# Altium schematic symbol library Master.SchLib: 29 symbols
Pins are listed as number, name and electrical type; pins without a type are passive.

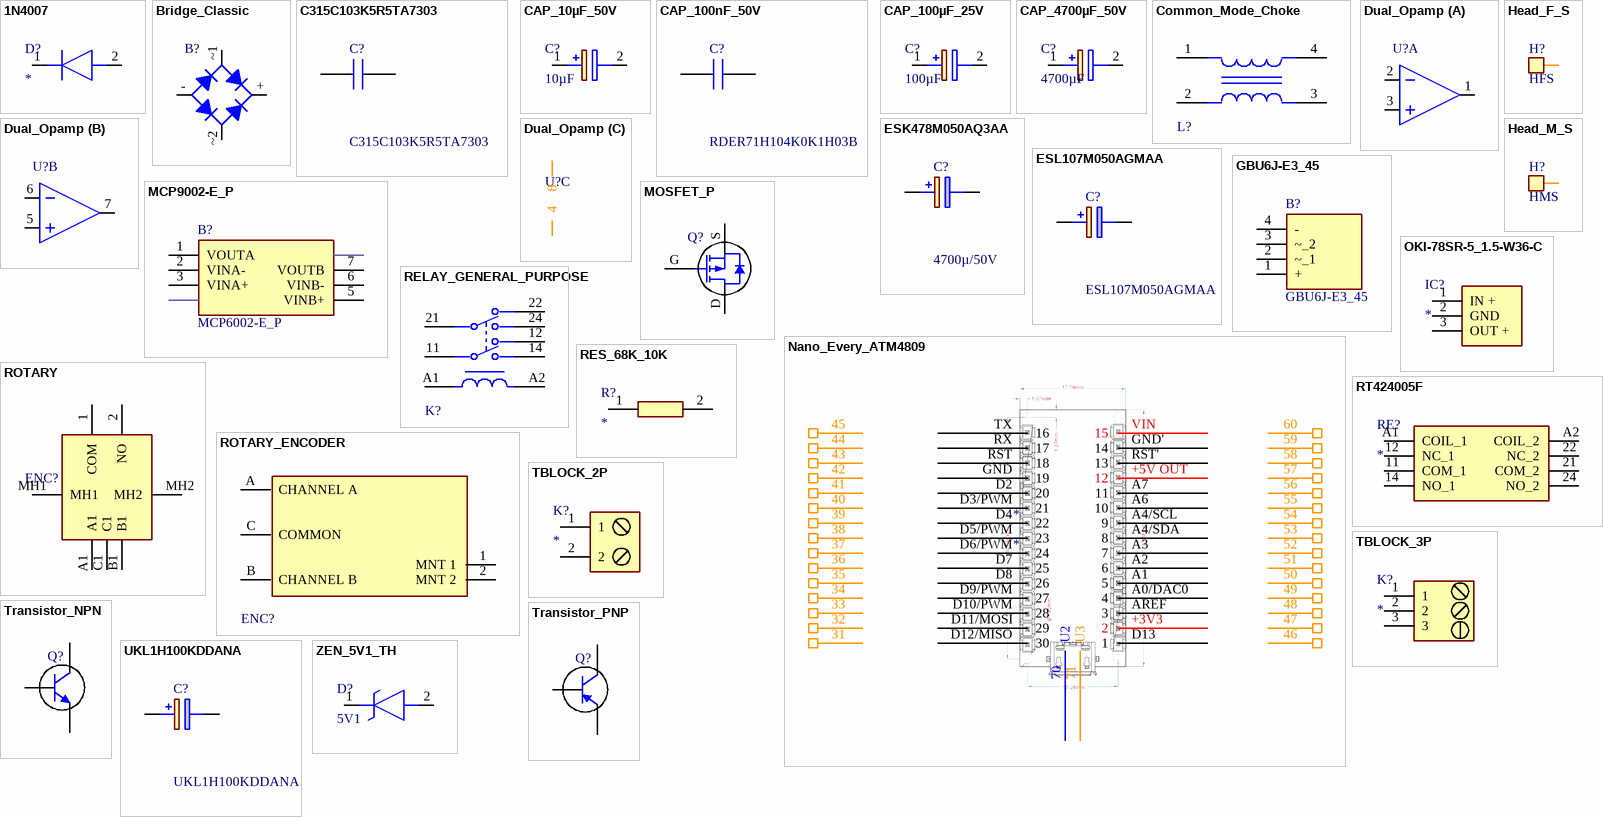
[diagram p0: symbols 1N4007 to ZEN_5V1_TH]

## 1N4007
designator D?
Diode 1N4007; Manufacturer_Name: Diotec; Datasheet Link: https://diotec.com/tl_files/diotec/files/pdf/datasheets/1n4001.pdf; Manufacturer_Part_Number: 1N4007; Mouser Part Number: 637-1N4007; Mouser Price/Stock: https://www.mouser.co.uk/ProductDetail/Diotec-Semiconductor/1N4007?qs=OlC7AqGiEDmK9mU1uTiCkg%3D%3D; Arrow Part Number: 1N4007; Arrow Price/Stock: https://www.arrow.com/en/products/1n4007/diotec-semiconductor-ag?region=europe
footprint DIOAD1405W58L465D235
pins: 1 K, 2 A

## Bridge_Classic
designator B?
Bridge Rectifiers 6.0 Amp 600 Volt; Manufacturer: Diodes Inc; Average Rectified Current-Max: 0.8A; Reverse Voltage-Max [Vrrm]: 600V; Forward Voltage: 1V; Peak Current-Max: 30A; Reverse Current-Max: 5µA; Package Version: 05/2016; Package URL: http://www.diodes.com/_files/packages/MiniDIP.pdf; Datasheet Version: Rev. 13-2, 12/2010; Datasheet URL: http://www.diodes.com/_files/datasheets/ds17003.pdf; Mounting Technology: SurfaceMount; Manufacturer URL: http://www.diodes.com/; Package Reference: MiniDIP-4; Package Description: 4-Pin Small Outline Integrated Circuit, Body 4.7 x 3.8 mm, Pitch 2.5 mm
footprint GBU6JE345
pins: + K, - A, ~1 C, ~2 C

## C315C103K5R5TA7303
designator C?
GoldMax 300 Comm X7R, Ceramic, 0.01 uF, 10%, 50 VDC, 125 VDC, 125C, -55C, X7R, GoldMax, Commercial Standard, 2.5 % , 100 GOhms, 3.81mm, 3.14mm, 2.54mm, Lead Spacing = 2.54mm, 18mm, 0.51mm, 2500, 80; Manufacturer_Name: KEMET; Geometry.Height: 4.66mm; Mouser Part Number: 80-C315C103K5R-TR; Mouser Price/Stock: https://www.mouser.co.uk/ProductDetail/KEMET/C315C103K5R5TA7303?qs=LJ1pyEEo5rYBfSJP9%252BZ%252BkA%3D%3D; Manufacturer_Part_Number: C315C103K5R5TA7303; Datasheet Link: https://content.kemet.com/datasheets/KEM_C1050_GOLDMAX_X7R.pdf
footprint C315C103K5R5TA7303
pins: 1, 2

## CAP_10µF_50V
designator C?, comment 10µF
Aluminium Electrolytic Capacitors - Radial Leaded WCAP-AT1H 10uF 50V 20% Radial; Manufacturer_Name: Wurth Elektronik; Manufacturer_Part_Number: 860040473003; Datasheet Link: https://componentsearchengine.com/Datasheets/2/860040473003.pdf; Height: 12.5mm; Mouser Part Number: 710-860040473003; Mouser Price/Stock: https://www.mouser.co.uk/ProductDetail/Wurth-Elektronik/860040473003?qs=0KOYDY2FL29v2%2FALxGsSIw%3D%3D
footprint CAPPRD200W50D525H1250
pins: 1 +, 2 -

## CAP_100nF_50V
designator C?, comment RDER71H104K0K1H03B
CAP, 0.1UF, 50V, MLCC, RADIAL; Manufacturer_Name: Murata Electronics; Geometry.Height: 5mm; Mouser Part Number: 81-RDER71H104K0K1H3B; Mouser Price/Stock: https://www.mouser.co.uk/ProductDetail/Murata-Electronics/RDER71H104K0K1H03B?qs=hNud%2FORuBR2GLaz%2FjAabyQ%3D%3D; Manufacturer_Part_Number: RDER71H104K0K1H03B; Datasheet Link: https://psearch.en.murata.com/capacitor/product/RDER71H104K0K1H03B.html
footprint RDE5C1H330J0M1H03A
pins: 1, 2

## CAP_100µF_25V
designator C?, comment 100µF
Aluminium Electrolytic Capacitors - Radial Leaded WCAP-ATUL 100uF 25V 20% Radial; Manufacturer_Name: Wurth Elektronik; Manufacturer_Part_Number: 860040473003; Datasheet Link: https://componentsearchengine.com/Datasheets/2/860040473003.pdf; Height: 12.5mm; Mouser Part Number: 710-860040473003; Mouser Price/Stock: https://www.mouser.co.uk/ProductDetail/Wurth-Elektronik/860040473003?qs=0KOYDY2FL29v2%2FALxGsSIw%3D%3D
footprint CAPPRD200W50D525H1250
pins: 1 +, 2 -

## CAP_4700µF_50V
designator C?, comment 4700µF
Aluminium Electrolytic Capacitors - Radial Leaded WCAP-ATG8 4700uF 50V 20% Radial; Manufacturer_Name: Wurth Elektronik; Manufacturer_Part_Number: 860040473003; Datasheet Link: https://componentsearchengine.com/Datasheets/2/860040473003.pdf; Height: 12.5mm; Mouser Part Number: 710-860040473003; Mouser Price/Stock: https://www.mouser.co.uk/ProductDetail/Wurth-Elektronik/860040473003?qs=0KOYDY2FL29v2%2FALxGsSIw%3D%3D
footprint CAP_4700UF_50V
footprint CAP_4700UF_50V
pins: 1 +, 2 -

## Common_Mode_Choke
designator L?
Max Current Rating: 2A; Number of Lines: 2; Impedance: 900R; Element Configuration: Dual; Insulation Resistance: 10MR; Test Frequency: 100MHz; DC Resistance (DCR): 60mR; Voltage Rating (DC): 50V; Current Rating: 2.3A; Number of Pins: 4; DC Current: 2A; Mount: Surface Mount; Current: 2A; REACH SVHC: No SVHC; Width: 4.5mm; Case/Package: 1808; Voltage Rating: 50V; Package Quantity: 1; Height: 2mm; Max DC Current: 2A; Packaging: Tape and Reel; Max Operating Temperature: 85°C; Lead Free: Lead Free; Length: 0.185inch; Series: ACM; Radiation Hardening: No; Max Voltage Rating (DC): 50V; Termination: Flat; Depth: 4.7mm; RoHS Compliant: Yes; DC Resistance-Max: 60mR; Min Operating Temperature: -40°C
footprint 2545
pins: 1, 2, 3, 4

## Dual_Opamp
designator U?
Slew Rate: 0.6V/µs; Supply Current: 100uA; Power Supply Rejection Ratio (PSRR): 86dB; Input Offset Voltage (Vos): 4.5mV; Input Bias Current: 1pA; Amplifier Type: GENERAL PURPOSE; Unity Gain Bandwidth Product: 1MHz; Number of Circuits: 2; Output Current: 23mA; Operating Supply Voltage: 5.5V; Min Supply Voltage: 1.8V; Common Mode Rejection Ratio: 60dB; Voltage Gain: 112dB; Max Supply Voltage: 6V; Package Quantity: 60; REACH SVHC: No SVHC; Min Operating Temperature: -40°C; Max Operating Temperature: 125°C; Mount: Through Hole; Nominal Supply Current: 100uA; Height: 3.3mm; Length: 9.27mm; Slew Rate-Nom: 0.6V/µs; Packaging: Rail/Tube; Output Current per Channel: 23mA; Number of Amplifiers: 2; RoHS Compliant: Yes; Radiation Hardening: No; Bandwidth: 1MHz; Lead Free: Lead Free; Width: 6.35mm; Number of Channels: 2; Gain Bandwidth Product: 1MHz; Technology: CMOS; Operating Supply Current: 100uA; Number of Elements: 2; Number of Pins: 8; Input Offset Voltage-Max: 4.5mV; Case/Package: PDIP
footprint DIP781W56P254L950H533Q8N
part A pins: 1 VOUTA, 2 VINA-, 3 VINA+
part B pins: 5 VINB+, 6 VINB-, 7 VOUTB
part C pins: 4 "USB differential data -", 8 "USB differential data -"

## ESK478M050AQ3AA
designator C?, comment 4700µ/50V
ESK, Aluminum, Aluminum Electrolytic, 4,700 uF, 20%, 50 VDC, -40/+85C, 85C, -40C, 85C, 2,000 Hrs, 10 % , 2.5, 2,350 uA, 3, 3, 22mm, 35mm, Lead Spacing = 10mm, 20mm, 400; Manufacturer_Name: KEMET; Manufacturer_Part_Number: ESK478M050AQ3AA; Geometry.Height: 37mm; Mouser Part Number: 80-ESK478M050AQ3AA; Mouser Price/Stock: https://www.mouser.co.uk/ProductDetail/KEMET/ESK478M050AQ3AA?qs=gt1LBUVyoHl7SM9dsUCJjA%3D%3D; Datasheet Link: https://content.kemet.com/datasheets/KEM_A4004_ESK.pdf
footprint CAPPRD1000W80D2200H3700
pins: 1 +, 2 -

## ESL107M050AGMAA
designator C?
ESL, Aluminum, Aluminum Electrolytic, 100 uF, 20%, 50 VDC, -40/+105C, 105C, -40C, 105C, 10,000 Hrs, 10 % , 120 mOhms, 50 uA, 6, 8mm, 11.5mm, Lead Spacing = 3.5mm, 20mm, 6000; Manufacturer_Name: KEMET; Geometry.Height: 13.5mm; Mouser Part Number: 80-ESL107M050AGMAA; Mouser Price/Stock: https://www.mouser.co.uk/ProductDetail/KEMET/ESL107M050AGMAA?qs=HXFqYaX1Q2z4rTWD6PNUtA%3D%3D; Manufacturer_Part_Number: ESL107M050AGMAA; Datasheet Link: https://content.kemet.com/datasheets/KEM_A4074_ESL.pdf
footprint CAPPRD350W60D800H1350
pins: 1 +, 2 -

## GBU6J-E3_45
designator B?
Bridge Rectifiers 6.0 Amp 600 Volt; Manufacturer_Name: Vishay; Manufacturer_Part_Number: GBU6J-E3/45; Geometry.Height: 18.8mm; Mouser Part Number: 625-GBU6J-E3; Mouser Price/Stock: https://www.mouser.co.uk/ProductDetail/Vishay-General-Semiconductor/GBU6J-E3-45?qs=AvlKB63p5SmaxIqZPcvcDQ%3D%3D; Datasheet Link: http://www.vishay.com/docs/88615/gbu6a.pdf
footprint GBU6JE345
pins: 1 +, 2 ~_1, 3 ~_2, 4 -

## Head_F_S
designator H?, comment HFS
footprint Header_F_S (Header female single)
pins: 1 HF "USB differential data -"

## Head_M_S
designator H?, comment HMS
footprint Header_M_S (Header male single)
pins: 1 HF "USB differential data -"

## MCP9002-E_P
designator B?, comment MCP6002-E_P
Microchip MCP6002-E/P, Dual Op Amp, 1MHz CMOS, Rail to Rail, 3 V, 5 V, 8-Pin PDIP; Geometry.Height: 5.334mm; Mouser Part Number: 579-MCP6002-E/P; Mouser Price/Stock: https://www.mouser.co.uk/ProductDetail/Microchip-Technology-Atmel/MCP6002-E-P?qs=hul3WK2zl4pqRWzdnAsu%2FQ%3D%3D; Manufacturer_Name: Microchip; Manufacturer_Part_Number: MCP6002-E/P; Datasheet Link: http://componentsearchengine.com/Datasheets/3/MCP6002-E_P.pdf
footprint DIP781W56P254L950H533Q8N
pins: 1 VOUTA, 2 VINA-, 3 VINA+, 4 VSS, 5 VINB+, 6 VINB-, 7 VOUTB, 8 VDD

## MOSFET_P
designator Q?
Manufacturer: Fairchild Semiconductor; Reel Quantity: 3000; Drain Source Voltage Vds: 20V; Power Dissipation Pd: 500mW; On Resistance Rds(on): 52mohm; Full Power Rating Temperature: 25°C; Voltage Vgs Max: -800mV; Pulse Current Idm: 10A; Rds(on) Test Voltage Vgs: -4.5V; External Depth: 2.5mm; Transistor Case Style: SOT-23; No. of Pins: 3; Continuous Drain Current Id: 2.4A; Voltage Vds Typ: -20V; Voltage Vgs th Max: -1.5V; Transistor Polarity: PChannel; Package Version: Rev. 3, 05/2015; External Width: 3.05mm; External Length / Height: 1.12mm; SMD Marking: 304P; SVHC: NoSVHC(19-Dec-2012); Termination Type: SMD; Datasheet URL: https://www.fairchildsemi.com/datasheets/FD/FDN304P.pdf; Tape Width: 8mm; Mounting Technology: SurfaceMount; Voltage Vgs Rds on Measurement: -4.5V; Operating Temperature Range: -55°Cto+150°C; Current Temperature: 25°C; Operating Temperature Min: -55°C; Threshold Voltage Vgs Typ: -800mV; Package / Case: SOT-23; Manufacturer URL: https://www.fairchildsemi.com/; Voltage Vds: 20V; Datasheet Version: Rev. C, 01/2001; Operating Temperature Max: 150°C; Package Description: 3-Pin Small Outline Transistor, Body 2.92 x 1.4 mm, Pitch 0.95 mm; Current Id Max: 2.4A; Package URL: https://www.fairchildsemi.com/package-drawings/MA/MA03B.pdf; Package Reference: SSOT3L
footprint IRF9Z34NPBF (MOSFET MOSFT PCh -55V -17A 100mOhm 23.3nC)
pins: D DRAIN, G GATE, S SOURCE

## Nano_Every_ATM4809
designator *
footprint Every_Nano_4809 (Microcontroller)
pins: 31 BIS "USB differential data -", 32 BIS "USB differential data -", 33 BIS "USB differential data -", 34 BIS "USB differential data -", 35 BIS "USB differential data -", 36 BIS "USB differential data -", 37 BIS "USB differential data -", 38 BIS "USB differential data -", 39 BIS "USB differential data -", 40 BIS "USB differential data -", 41 BIS "USB differential data -", 42 BIS "USB differential data -", 43 BIS "USB differential data -", 44 BIS "USB differential data -", 45 BIS "USB differential data -", 46 BIS "USB differential data -", 47 BIS "USB differential data -", 48 BIS "USB differential data -", 49 BIS "USB differential data -", 50 BIS "USB differential data -", 51 BIS "USB differential data -", 52 BIS "USB differential data -", 53 BIS "USB differential data -", 54 BIS "USB differential data -", 55 BIS "USB differential data -", 56 BIS "USB differential data -", 57 BIS "USB differential data -", 58 BIS "USB differential data -", 59 BIS "USB differential data -", 60 BIS "USB differential data -", 70 U2 "USB differential data -", 71 U3 "USB differential data -", +3V3 2 "Internally generated power output to external devices", +5V OUT 12 "Internally generated power output to external devices", A0/DAC0 4 "ADC in/DAC out; can be used as GPIO", A1 5 "ADC in; can be used as GPIO", A2 6 "ADC in; can be used as GPIO", A3 7 "ADC in; can be used as GPIO", A4/SCL 9 "ADC in; I2C SCL; Can be used as GPIO", A4/SDA 8 "ADC in; I2C SDA; Can be used as GPIO", A6 10 "ADC in; can be used as GPIO", A7 11 "ADC in; can be used as GPIO", AREF 3 "Analog Reference; can be used as GPIO", D2 20 "GPIO", D3/PWM 21 "GPIO; can be used as PWM", D4 22 "GPIO", D5/PWM 23 "GPIO; can be used as PWM", D6/PWM 24 "GPIO; can be used as PWM", D7 25 "GPIO", D8 26 "GPIO", D9/PWM 27 "GPIO; can be used as PWM", D10/PWM 28 "GPIO; can be used as PWM", D11/MOSI 29 "SPI MOSI; can be used as GPIO", D12/MISO 30 "SPI MOSI; can be used as GPIO", D13 1 "SPI SCK, GPIO", GND 19 "Power Ground", GND' 14 "Power Ground", RST 18 "Active low reset input (duplicate of pin 13)", RST' 13 "Active low reset input (duplicate of pin 13)", RX 17 "USART RX; can be used as GPIO", TX 16 "USART TX; can be used as GPIO", VIN 15

## OKI-78SR-5_1.5-W36-C
designator IC?
Non-Isolated DC/DC Converter 7.5W 12VIN 5VOUT 1.5A DC/DC; Manufacturer_Name: Murata Electronics; Manufacturer_Part_Number: OKI-78SR-5/1.5-W36-C; Datasheet Link: https://www.murata.com/products/productdata/8807037992990/oki-78sr.pdf?1583754815000; Height: 16.5mm; Mouser Part Number: 580-OKI78SR5/1.5W36C; Mouser Price/Stock: https://www.mouser.co.uk/ProductDetail/Murata-Power-Solutions/OKI-78SR-5-1.5-W36-C?qs=uJpRT2lXVNXJP%252Bo08dQqJQ%3D%3D; Arrow Part Number: OKI-78SR-5/1.5-W36-C; Arrow Price/Stock: https://www.arrow.com/en/products/oki-78sr-51.5-w36-c/murata-power-solutions?region=nac
footprint OKI78SR515W36C
pins: 1 IN +, 2 GND, 3 OUT +

## RELAY_GENERAL_PURPOSE
designator K?
Manufacturer Part Number: RT424005; Manufacturer: TE Connectivity; Coil Power: 403mW; Throw Configuration: DPDT; Coil Voltage: 5V; Number Of Contacts: 2; Coil Resistance: 62Ω; Current Rating: 8A; Coil Type: Non-Latching; Category: Relay; Octopart: https://octopart.com/5-1393243-9-te+connectivity-41835766; Device Class L3: Power Relays; ComponentLink2URL: https://www.te.com/commerce/DocumentDelivery/DDEController?Action=showdoc&DocId=Data+Sheet%7FRT2%7F1014%7Fpdf%7FEnglish%7FENG_DS_RT2_1014.pdf%7F5-1393243-9; Ambient Temperature Range High: +85°C; ComponentLink2Description: Datasheet; Digikey Description: RELAY GENERAL PURPOSE DPDT 8A 5V; Package: RT424005; Automotive: No; Device Class L1: Electromechanical; Height: 15.7mm; Device Class L2: Relays; Ambient Temperature Range Low: -40°C; Mouser Description: General Purpose Relay, Rt2 Series, Power, Non Latching, Dpdt, 5 Vdc, 8 A Rohs Compliant: Yes; Lead Free: Yes; RoHS: TRUE
footprint RT424005F (General Purpose Relays DPDT 8A 5VDC GEN PURPOSE RELAY)
pins: 11, 12, 14, 21, 22, 24, A1, A2

## RES_68K_10K
designator R?
Through Hole 1W 10/68 Kohms 1%; Manufacturer_Name: Vishay; Manufacturer_Part_Number: CMF6010K000FKEB; Datasheet Link: https://datasheet.datasheetarchive.com/originals/distributors/Datasheets-DGA8/3123891.pdf; Mouser Part Number: 71-CMF6010K000FKEB; Mouser Price/Stock: https://www.mouser.co.uk/ProductDetail/Vishay-Dale/CMF6010K000FKEB?qs=GEEnpASSx%2Fgpk8SPxIuFzw%3D%3D; Arrow Part Number: CMF6010K000FKEB; Arrow Price/Stock: https://www.arrow.com/en/products/cmf6010k000fkeb/vishay
footprint VISHAY_CMF_60 (Vishay CMF 60 series)
pins: 1, 2

## ROTARY
designator ENC?  (value not drawn)
Encoder 20mm SHAFT w/SWITCH; Manufacturer_Name: Bourns; Manufacturer_Part_Number: PEC11R-4225F-S0012; Datasheet Link: https://www.bourns.com/docs/product-datasheets/pec11r.pdf?sfvrsn=bb617cbf_11; Height: 31.5mm; Mouser Part Number: 652-PEC11R-4225F-S12; Mouser Price/Stock: https://www.mouser.co.uk/ProductDetail/Bourns/PEC11R-4225F-S0012?qs=Zq5ylnUbLm4jMN%252BFiPmzDg%3D%3D
footprint PEC11R4225FS0012
pins: 1 COM, 2 NO, A1, B1, C1, MH1, MH2

## ROTARY_ENCODER
designator ENC?
Manufacturer Part Number: PEC11R-4015F-N0024; Manufacturer: Bourns; Current Rating: 10mA; Number Of Circuits: 1; Conn Orientation: Vertical; Encoder Type: Incremental; Detent: No; Pulses Per Rev: 24; Voltage Rating Dc: 5V; Height: 22.3mm; ComponentLink2URL: https://www.bourns.com/docs/product-datasheets/pec11r.pdf?sfvrsn=bb617cbf_7; Mouser Description: Encoders 15mm SHAFT NO SWITCH; Package: 0; RoHS: TRUE; Temperature Range High: +70°C; Device Class L1: Electromechanical; Device Class L3: Encoders; Temperature Range Low: -30°C; Device Class L2: Switches; Temperature: -30°C to +70°C; Category: Enc; ComponentLink2Description: Datasheet; Lead Free: Yes; Automotive: No; Octopart: https://octopart.com/pec11r-4015f-n0024-bourns-26648251; Digikey Description: ROTARY ENCODER MECHANICAL 24PPR
footprint PEC11R4225FN0024 (Footprint not found)
pins: 1 MNT 1, 2 MNT 2, A CHANNEL A, B CHANNEL B, C COMMON

## RT424005F
designator RE?
Relay or Contactor; Manufacturer_Name: TE Connectivity; Manufacturer_Part_Number: 1-1419108-6; Datasheet Link: https://www.te.com/commerce/DocumentDelivery/DDEController?Action=srchrtrv&DocNm=RT2pb&DocType=Data+Sheet&DocLang=English&PartCntxt=1-1419108-6&DocFormat=pdf; Height: 15.7mm; Mouser Part Number: 655-1-1419108-6; Mouser Price/Stock: https://www.mouser.co.uk/ProductDetail/TE-Connectivity-PB/1-1419108-6?qs=ChlQzgYGFxQQmg2xvNf88w%3D%3D
footprint RT424005F (General Purpose Relays DPDT 8A 5VDC GEN PURPOSE RELAY)
pins: 11 COM_1, 12 NC_1, 14 NO_1, 21 COM_2, 22 NC_2, 24 NO_2, A1 COIL_1, A2 COIL_2

## TBLOCK_2P
designator K?
Connector; Manufacturer_Name: Wurth Elektronik; Manufacturer_Part_Number: 691104700002; Height: 7.7mm; Mouser Part Number: 710-691104700002; Mouser Price/Stock: https://www.mouser.co.uk/ProductDetail/Wurth-Elektronik/691104700002?qs=sPbYRqrBIVlxnZf2zP2Y8g%3D%3D
footprint TBLOCK_2P
pins: 1, 2

## TBLOCK_3P
designator K?
Connector; Manufacturer_Name: Wurth Elektronik; Manufacturer_Part_Number: 691104700002; Height: 7.7mm; Mouser Part Number: 710-691104700002; Mouser Price/Stock: https://www.mouser.co.uk/ProductDetail/Wurth-Elektronik/691104700002?qs=sPbYRqrBIVlxnZf2zP2Y8g%3D%3D
footprint TBLOCK_3P
pins: 1, 2, 3

## Transistor_NPN
designator Q?
Manufacturer: On Semiconductor; PartNumber: BC547C; IC Continuous (A): 0.1; fT Min (MHz): 150; Packing: Bulk Box; Polarity: NPN; Mounting Technology: Through Hole; ComponentLink1URL: http://www.onsemi.com/; ComponentLink1Description: Manufacturer URL; ComponentLink3URL: http://www.onsemi.cn/pub_link/Collateral/2N6426-D.PDF; DatasheetVersion: Rev. 7; PackageVersion: Rev. AM; RoHS: FALSE; ComponentLink2URL: http://www.onsemi.com/pub_link/Collateral/BC546-D.PDF; ComponentLink3Description: Package Specification; PackageDescription: 3-Pin Transistor Outline, Body 4.825 x 3.685 mm, Pitch 1.27 mm; PackageReference: TO-92-3-29-11_AM_SL; ComponentLink2Description: Datasheet
footprint ONSC-TO-92-3-29-11 (TO, 3-Leads, Body Dia 4.7mm, Pitch 1.27mm)
pins: 1 C, 2 B, 3 E

## Transistor_PNP
designator Q?
Manufacturer: On Semiconductor; PartNumber: BC557C; Polarity: PNP; IC Continuous (A): -0.1; Packing: Bulk Box; PackageVersion: Rev. AM; RoHS: FALSE; PackageDescription: 3-Pin Transistor Outline, Body 4.825 x 3.685 mm, Pitch 1.27 mm; ComponentLink2Description: Datasheet; DatasheetVersion: Rev. 3; ComponentLink3Description: Package Specification; Mounting Technology: Through Hole; ComponentLink2URL: http://www.onsemi.com/pub_link/Collateral/BC556B-D.PDF; ComponentLink1URL: http://www.onsemi.com/; ComponentLink1Description: Manufacturer URL; ComponentLink3URL: http://www.onsemi.cn/pub_link/Collateral/2N6426-D.PDF; PackageReference: TO-92-3-29-11_AM_SL
footprint ONSC-TO-92-3-29-11 (TO, 3-Leads, Body Dia 4.7mm, Pitch 1.27mm)
pins: 1 C, 2 B, 3 E

## UKL1H100KDDANA
designator C?
Cap Aluminum Lytic 10uF 50V 10% (5 X 11mm) Radial 2mm 70mA 1000h 105C; Manufacturer_Name: Nichicon; Geometry.Height: 12.5mm; Mouser Part Number: 647-UKL1H100KDDANA; Mouser Price/Stock: https://www.mouser.co.uk/ProductDetail/Nichicon/UKL1H100KDDANA/?qs=LEOMo9F8%2FjG8Wr15FZX2LA%3D%3D; Manufacturer_Part_Number: UKL1H100KDDANA; Datasheet Link: https://datasheet.datasheetarchive.com/originals/dk/DKDS-9/176714.pdf
footprint CAPPRD200W50D525H1250
pins: 1 +, 2 -

## ZEN_5V1_TH
designator D?, comment 5V1
Zener Diode 5.1 Volt 0.5W 5%; Manufacturer_Name: Vishay; Manufacturer_Part_Number: TZX5V1B-TR; Datasheet Link: https://componentsearchengine.com/Datasheets/1/TZX5V1B-TR.pdf; Mouser Part Number: 78-TZX5V1B; Mouser Price/Stock: https://www.mouser.co.uk/ProductDetail/Vishay-Semiconductors/TZX5V1B-TR?qs=25SNtymhSqO6Jh%252BHM6pQoA%3D%3D; Arrow Part Number: TZX5V1B-TR; Arrow Price/Stock: https://www.arrow.com/en/products/tzx5v1b-tr/vishay?region=nac
footprint DIOAD950W60L350D150
pins: 1 K, 2 A